# Altium schematic symbol library LTC3300.SchLib: 1 symbol
Pins are listed as number, name and electrical type; pins without a type are passive.

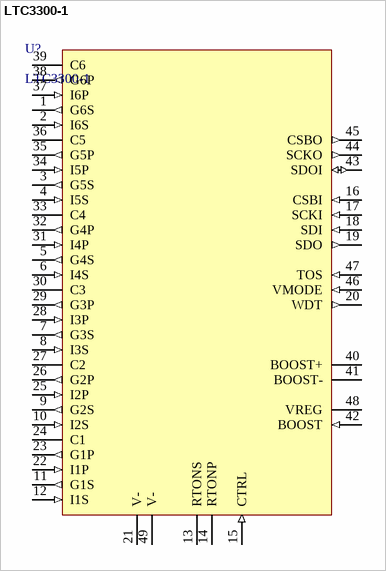
[diagram p0: symbol LTC3300-1]

## LTC3300-1
designator U?
LinearTechnology LTC3300-1 / High Efficiency Bidirectional Multicell Battery Balancer; ComponentLink1Description: Product Page; ComponentLink1URL: https://www.analog.com/jp/products/ltc3300-1.html; ComponentLink2Description: Datasheet(en); ComponentLink2URL: https://www.analog.com/media/en/technical-documentation/data-sheets/33001fb.pdf; ComponentLink3Description: Datasheet(ja); ComponentLink3URL: https://www.analog.com/media/jp/technical-documentation/data-sheets/j33001fb.pdf
footprint LTC-LXE_Package (Reference LTC DWG # 05-08-1832 Rev B)
footprint LTC-UK_Package (Reference LTC DWG # 05-08-1704 Rev C)
pins: 1 G6S (out), 2 I6S (in), 3 G5S (out), 4 I5S (in), 5 G4S (out), 6 I4S (in), 7 G3S (out), 8 I3S (in), 9 G2S (out), 10 I2S (in), 11 G1S (out), 12 I1S (in), 13 RTONS, 14 RTONP, 15 CTRL (in), 16 CSBI (in), 17 SCKI (in), 18 SDI (in), 19 SDO (out), 20 WDT (out), 21 V- (power), 22 I1P (in), 23 G1P (out), 24 C1 (power), 25 I2P (in), 26 G2P (out), 27 C2 (power), 28 I3P (in), 29 G3P (out), 30 C3 (power), 31 I4P (in), 32 G4P (out), 33 C4 (power), 34 I5P (in), 35 G5P (out), 36 C5 (power), 37 I6P (in), 38 G6P (out), 39 C6 (power), 40 BOOST+, 41 BOOST-, 42 BOOST (in), 43 SDOI (io), 44 SCKO (out), 45 CSBO (out), 46 VMODE (in), 47 TOS (in), 48 VREG (power), 49 V- (power)